# Altium footprint library cstce_3_320x130x70.PcbLib: 1 footprints
Each footprint in its own frame and in the unit in brackets; x right, y up, seen from the top. Pads: shape width x height; smd on the part's side, far side on the other; paste and mask are expansions set on the pad; w line width, h text height; cw(c..) or ccw(c..) is an arc to the next point about the centre after c.
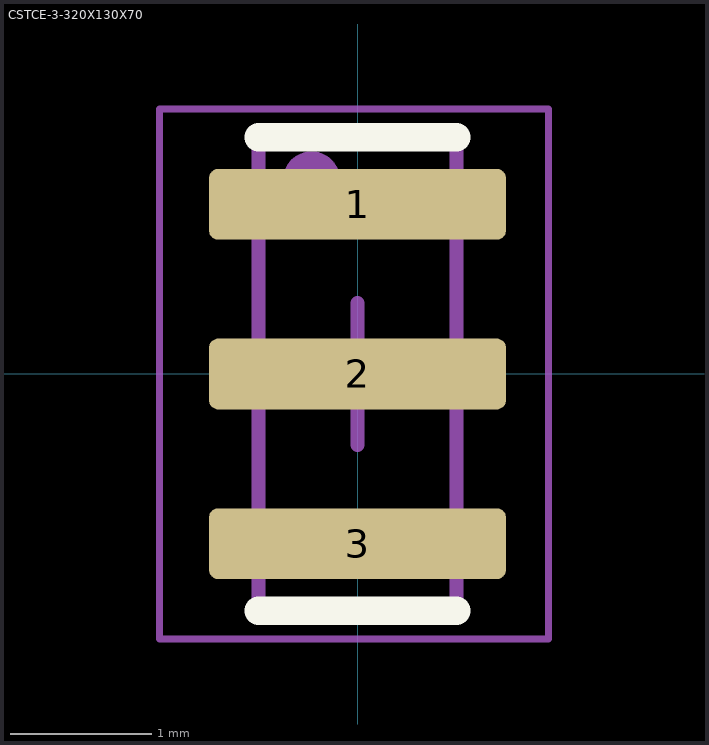
[diagram p0: the footprint, top view; thin cyan lines are the x and y axes]

## CSTCE-3-320X130X70 [mm]
height 0.7
pads (3):
  rrect25% 2.1x0.5 smd paste-0.025 mask+0.1: 1(0,1.2) 2(0,0) 3(0,-1.2)
Top Overlay:
  lines w0.2: -0.7,-1.675 0.7,-1.675 ; -0.7,1.675 0.7,1.675
Mechanical 7:
  text ".Comment" at 0.381,2.286 h1.2
Top Designator:
  text ".Designator" at -0.635,2.286 h1.2
Top Component Outline:
  circle w0.2: c-0.325,1.375 r0.1
  lines w0.1: -0.7,-1.675 0.7,-1.675 0.7,1.675 -0.7,1.675 -0.7,-1.675
Top Courtyard:
  lines w0.05: -1.4,-1.875 1.35,-1.875 1.35,1.875 -1.4,1.875 -1.4,-1.875
  lines w0.1: -0.5,0 0.5,0 ; 0,-0.5 0,0.5
3D body: height 0.75, standoff 0, extent -0.7,-1.675 0.7,1.675